# Altium footprint library WF-4.PcbLib: 1 footprints
Each footprint in its own frame and in the unit in brackets; x right, y up, seen from the top. Pads: shape width x height; smd on the part's side, far side on the other; paste and mask are expansions set on the pad; w line width, h text height; cw(c..) or ccw(c..) is an arc to the next point about the centre after c.
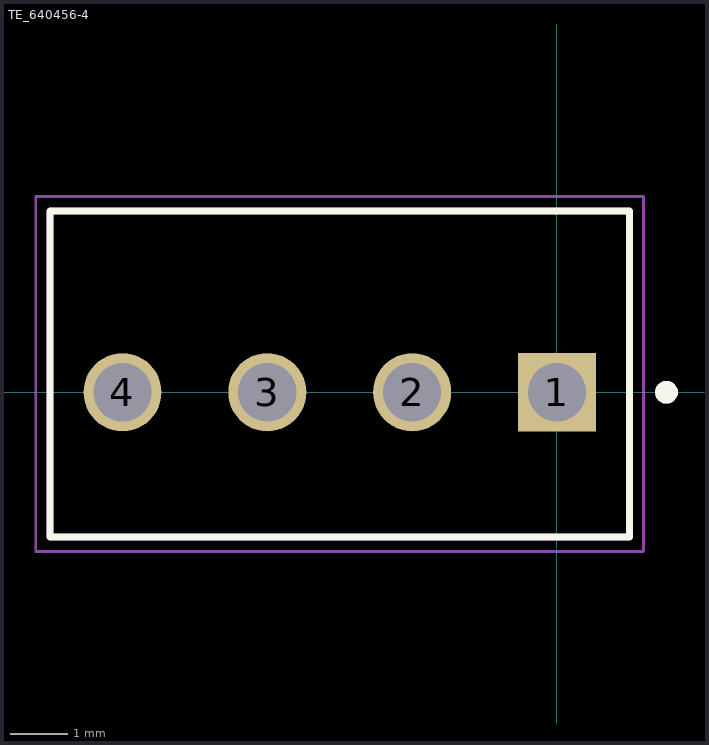
[diagram p0: the footprint, top view; thin cyan lines are the x and y axes]

## TE_640456-4 [mm]
pads (4):
  rect 1.37x1.37 hole 1.02: 1(0,0)
  round 1.37 hole 1.02: 2(-2.54,0) 3(-5.08,0) 4(-7.62,0)
Top Overlay:
  circle w0.2: c1.92,0 r0.1
  lines w0.127: -8.89,-2.54 1.27,-2.54 1.27,3.18 -8.89,3.18 -8.89,-2.54
Mechanical 13:
  circle w0.2: c1.92,0 r0.1
  lines w0.127: -8.89,-2.54 -8.89,3.18 ; -8.89,-2.54 1.27,-2.54 ; -8.89,-2.54 -8.89,3.18 ; -8.89,3.18 1.27,3.18 ; -8.89,3.18 1.27,3.18 ; 1.27,-2.54 1.27,3.18 ; 1.27,-2.54 1.27,3.18
Mechanical 15:
  lines w0.05: -9.14,-2.79 1.52,-2.79 1.52,3.43 -9.14,3.43 -9.14,-2.79
3D body "640456-4_WF-4.STEP": height 10.03, standoff -3.94, extent -8.89,-2.54 1.27,3.175